# Altium schematic symbol library test_point.SchLib: 1 symbol
Pins are listed as number, name and electrical type; pins without a type are passive.

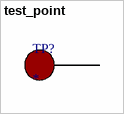
[diagram p0: symbol test_point]

## test_point
designator TP?
footprint test_point
pins: 0